# Altium schematic symbol library U.SchLib: 98 symbols (part 2 of 2)
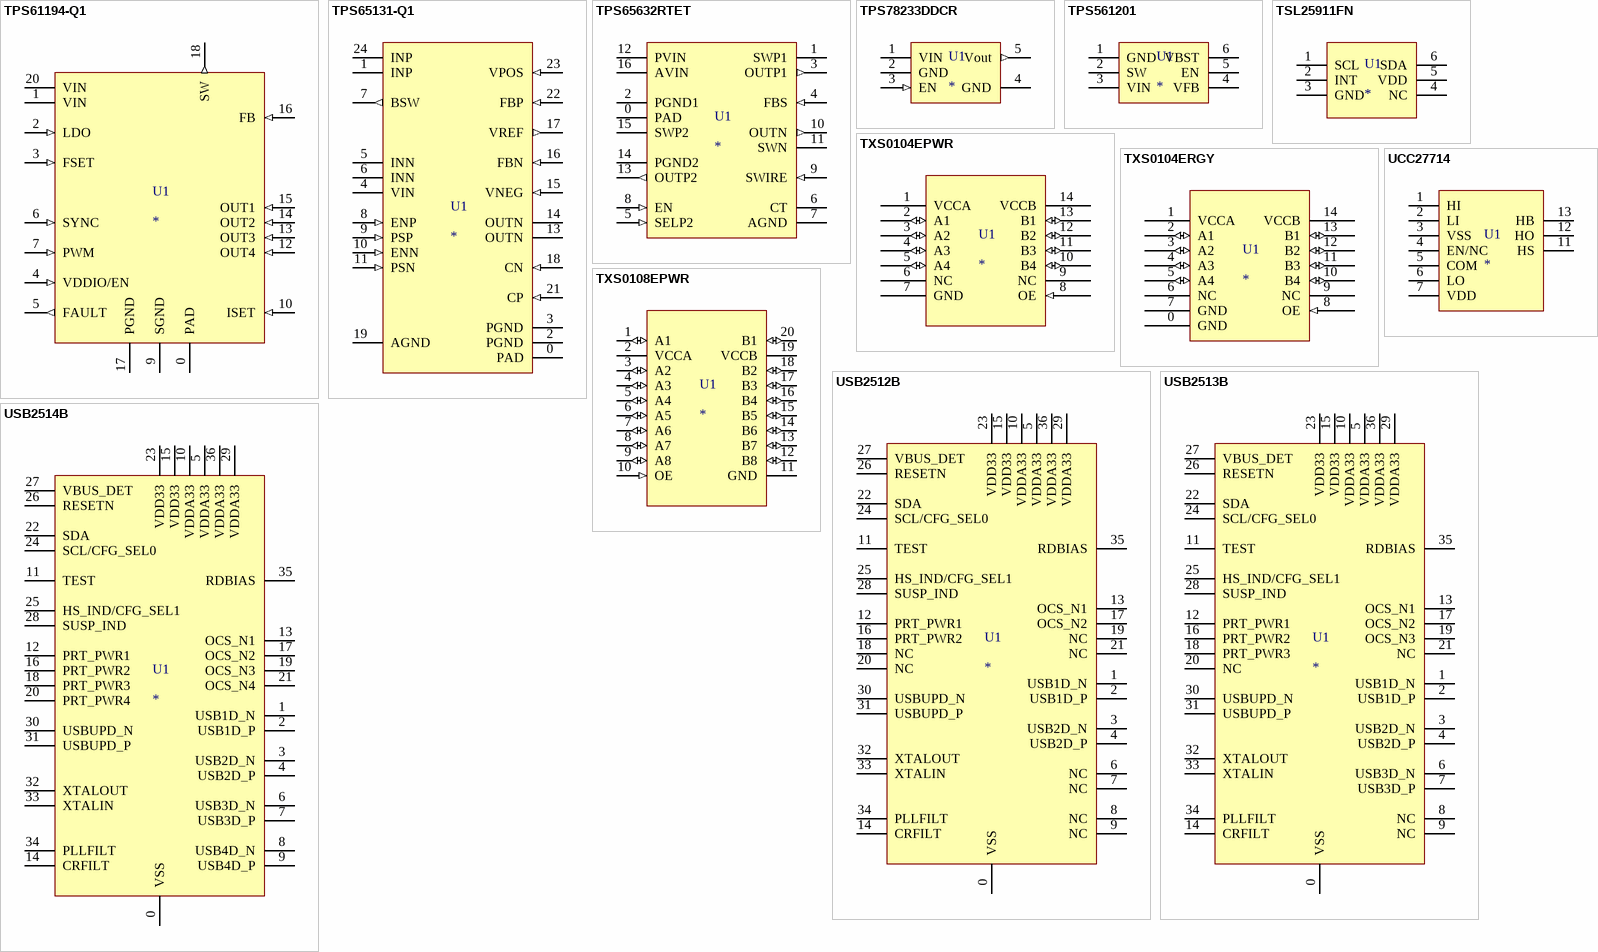
[diagram p8: symbols TPS61194-Q1 to USB2514B]

## USB2513B
designator U1
USB Interface IC USB 2.0 High-Speed 3 Port Hub CTRL
footprint QFN-36 - P0.5MM (Quad Flat No Lead; 32 Terminals; Body 5 x 5 mm; Pitch 0.5 mm)
pins: 0 VSS, 1 USB1D_N, 2 USB1D_P, 3 USB2D_N, 4 USB2D_P, 5 VDDA33, 6 USB3D_N, 7 USB3D_P, 8 NC, 9 NC, 10 VDDA33, 11 TEST, 12 PRT_PWR1, 13 OCS_N1, 14 CRFILT, 15 VDD33, 16 PRT_PWR2, 17 OCS_N2, 18 PRT_PWR3, 19 OCS_N3, 20 NC, 21 NC, 22 SDA, 23 VDD33, 24 SCL/CFG_SEL0, 25 HS_IND/CFG_SEL1, 26 RESETN, 27 VBUS_DET, 28 SUSP_IND, 29 VDDA33, 30 USBUPD_N, 31 USBUPD_P, 32 XTALOUT, 33 XTALIN, 34 PLLFILT, 35 RDBIAS, 36 VDDA33

## USB2514B
designator U1
USB Interface IC USB 2.0 High-Speed 4 Port Hub CTRL
footprint QFN-36 - P0.5MM (Quad Flat No Lead; 32 Terminals; Body 5 x 5 mm; Pitch 0.5 mm)
pins: 0 VSS, 1 USB1D_N, 2 USB1D_P, 3 USB2D_N, 4 USB2D_P, 5 VDDA33, 6 USB3D_N, 7 USB3D_P, 8 USB4D_N, 9 USB4D_P, 10 VDDA33, 11 TEST, 12 PRT_PWR1, 13 OCS_N1, 14 CRFILT, 15 VDD33, 16 PRT_PWR2, 17 OCS_N2, 18 PRT_PWR3, 19 OCS_N3, 20 PRT_PWR4, 21 OCS_N4, 22 SDA, 23 VDD33, 24 SCL/CFG_SEL0, 25 HS_IND/CFG_SEL1, 26 RESETN, 27 VBUS_DET, 28 SUSP_IND, 29 VDDA33, 30 USBUPD_N, 31 USBUPD_P, 32 XTALOUT, 33 XTALIN, 34 PLLFILT, 35 RDBIAS, 36 VDDA33